# EAGLE library part 2636-1101 (library con-wago_2636)
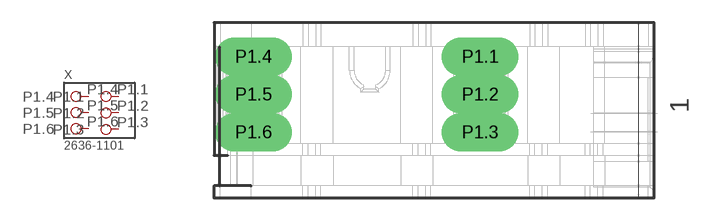
[diagram p0: symbol with the pads of P-2636-1101; footprint P-2636-1101]

Designator prefix X

## 2636-1101  [P-2636-1101]
P1.1  P1.1
P1.2  P1.2
P1.3  P1.3
P1.4  P1.4
P1.5  P1.5
P1.6  P1.6

## Footprint P-2636-1101 (pad centres in mm)
drill 1.7 pad 1.778 long: P1.1 0,-0.65; P1.2 0,-3.15; P1.3 0,-5.65; P1.4 -15,-0.65; P1.5 -15,-3.15; P1.6 -15,-5.65